# Altium footprint library wson.PcbLib: 2 footprints
Each footprint in its own frame and in the unit in brackets; x right, y up, seen from the top. Pads: shape width x height; smd on the part's side, far side on the other; paste and mask are expansions set on the pad; w line width, h text height; cw(c..) or ccw(c..) is an arc to the next point about the centre after c.
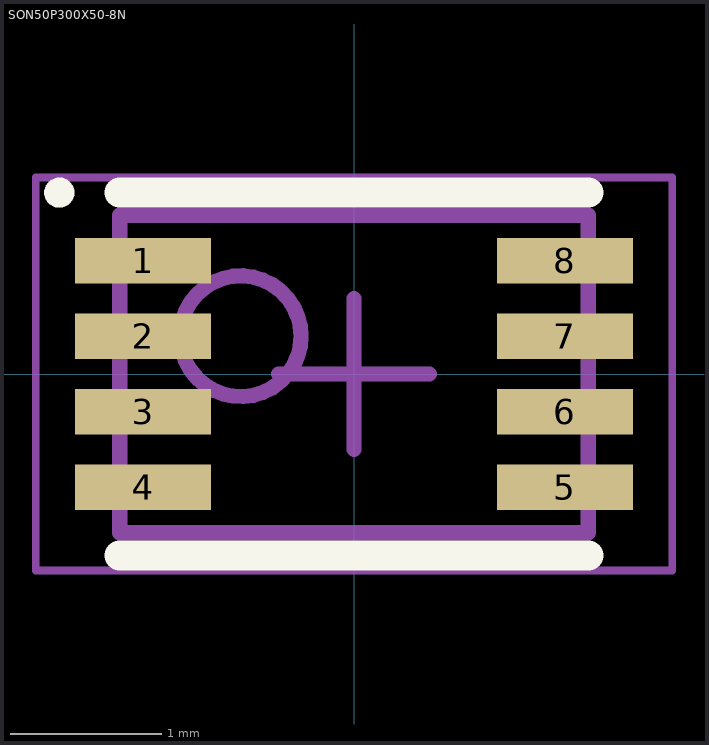
[diagram p0: the footprints below, top view; thin cyan lines are the x and y axes]

## PCBComponent_1 [mm]

## SON50P300X50-8N [mm] "SON, 8-Leads, Body 2.00x3.00mm, Pitch 0.50mm, IPC Medium Density"
height 0.5
pads (8):
  rect 0.9x0.3 smd: 1(-1.395,0.75) 2(-1.395,0.25) 3(-1.395,-0.25) 4(-1.395,-0.75) 5(1.395,-0.75) 6(1.395,-0.25) 7(1.395,0.25) 8(1.395,0.75)
Top Overlay:
  circle w0.1: c-1.95,1.2 r0.05
  lines w0.2: -1.55,-1.2 1.55,-1.2 ; -1.55,1.2 1.55,1.2
Mechanical 13:
  circle w0.1: c-0.75,0.25 r0.4
  lines w0.1: -1.55,-1.05 -1.55,1.05 1.55,1.05 1.55,-1.05 -1.55,-1.05
Mechanical 15:
  lines w0.05: -2.105,-1.3 -2.105,1.3 2.105,1.3 2.105,-1.3 -2.105,-1.3
  lines w0.1: -0.5,0 0.5,0 ; 0,-0.5 0,0.5
3D body "SON50P300X50-8N.step": height 0.5, standoff 0.1, extent -1.55,-1.05 1.55,1.05